# Altium integrated library 221790-1.IntLib: 1 symbol
Pins are listed as number, name and electrical type; pins without a type are passive.

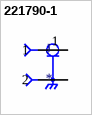
[diagram p0: symbol 221790-1]

## 221790-1
designator J
Connector; SMA; PCB; Right Angle; Stainless Steel; 0.6 in.; Beryllium Copper; Number_of_Positions: 1; MP: 221790-1; MF: TE Connectivity; Price: None; EU_RoHS_Compliance: Compliant with Exemptions; Package: None; TE_purchase_URL: https://www.te.com/usa-en/product-221790-1.html?te_bu=Cor&te_type=disp&te_campaign=seda_glo_cor-seda-global-disp-prtnr-fy19-seda-model-bom-cta_sma-317_1&elqCampaignId=32493; Value: *; Availability: Unavailable; SnapEDA_Link: https://www.snapeda.com/parts/221790-1/TE%20Connectivity%20AMP%20Connectors/view-part/496294/?ref=snap
footprint TE_221790-1
pins: 1, 2, 3 2, 4 2, 5 2